# Altium footprint library Transistor.PcbLib: 227 footprints (part 10 of 15)
Each footprint in its own frame and in the unit in brackets; x right, y up, seen from the top. Pads: shape width x height; smd on the part's side, far side on the other; paste and mask are expansions set on the pad; w line width, h text height; cw(c..) or ccw(c..) is an arc to the next point about the centre after c.
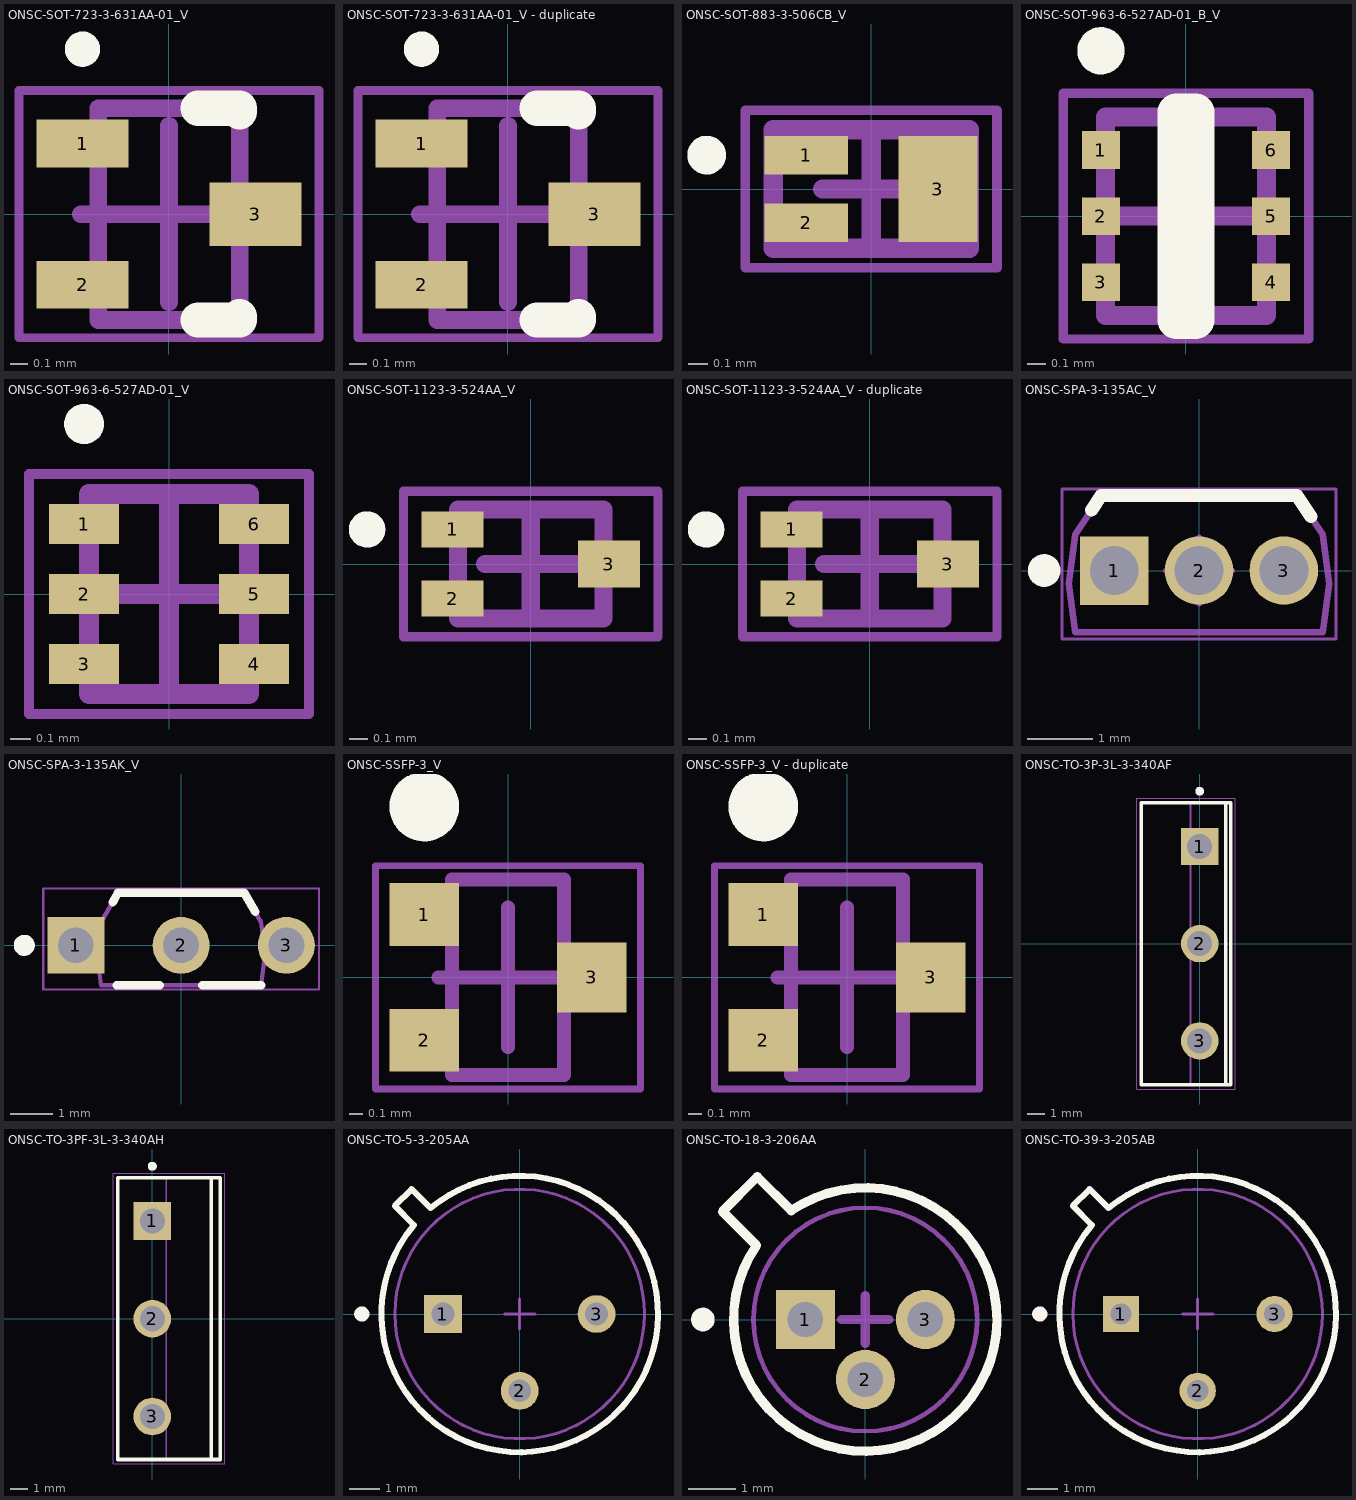
[diagram p9: the footprints below, top view; thin cyan lines are the x and y axes]

## ONSC-SOT-723-3-631AA-01_V [mm] "SOT223, 3-Leads, Body 1.2x0.8mm, Pitch 0.4mm"
height 0.55
pads (3):
  rect 0.52x0.27 smd: 1(-0.49,0.4) 2(-0.49,-0.4)
  rect 0.52x0.36 smd: 3(0.49,0)
Top Overlay:
  circle w0.1: c-0.49,0.935 r0.05
  lines w0.2: 0.165,-0.6 0.4,-0.6 0.4,-0.58 ; 0.165,0.6 0.4,0.6 0.4,0.58
Mechanical 13:
  lines w0.1: -0.4,-0.6 -0.4,0.6 0.4,0.6 0.4,-0.6 -0.4,-0.6
Mechanical 15:
  lines w0.05: -0.85,-0.7 -0.85,0.7 0.85,0.7 0.85,-0.7 -0.85,-0.7
  lines w0.1: -0.5,0 0.5,0 ; 0,-0.5 0,0.5
3D body: height 0.55, standoff 0, extent -0.4,-0.6 0.4,0.6

## ONSC-SOT-723-3-631AA-01_V - duplicate [mm] "SOT223, 3-Leads, Body 1.2x0.8mm, Pitch 0.4mm"
height 0.55
pads (3):
  rect 0.52x0.27 smd: 1(-0.49,0.4) 2(-0.49,-0.4)
  rect 0.52x0.36 smd: 3(0.49,0)
Top Overlay:
  circle w0.1: c-0.49,0.935 r0.05
  lines w0.2: 0.165,-0.6 0.4,-0.6 0.4,-0.58 ; 0.165,0.6 0.4,0.6 0.4,0.58
Mechanical 13:
  lines w0.1: -0.4,-0.6 -0.4,0.6 0.4,0.6 0.4,-0.6 -0.4,-0.6
Mechanical 15:
  lines w0.05: -0.85,-0.7 -0.85,0.7 0.85,0.7 0.85,-0.7 -0.85,-0.7
  lines w0.1: -0.5,0 0.5,0 ; 0,-0.5 0,0.5
3D body: height 0.55, standoff 0, extent -0.4,-0.6 0.4,0.6

## ONSC-SOT-883-3-506CB_V [mm] "SOT, 3-Leads, Body 1.012x0.613mm, Pitch 0.35mm"
height 0.44
pads (3):
  rect 0.43x0.2 smd: 1(-0.335,0.175) 2(-0.335,-0.175)
  rect 0.41x0.55 smd: 3(0.345,0)
Top Overlay:
  circle w0.1: c-0.85,0.175 r0.05
Mechanical 13:
  lines w0.1: -0.506,-0.306 -0.506,0.306 0.506,0.306 0.506,-0.306 -0.506,-0.306
Mechanical 15:
  lines w0.05: -0.65,-0.406 0.65,-0.406 0.65,0.406 -0.65,0.406 -0.65,-0.406
  lines w0.1: -0.25,0 0.25,0 ; 0,-0.25 0,0.25
3D body: height 0.44, standoff 0, extent -0.506,-0.306 0.506,0.306

## ONSC-SOT-963-6-527AD-01_B_V [mm] "SOT23, 6-Leads, Body 1.05x0.85mm, Pitch 0.35mm"
height 0.4
pads (6):
  rect 0.2x0.2 smd: 1(-0.45,0.35) 2(-0.45,0) 3(-0.45,-0.35) 4(0.45,-0.35) 5(0.45,0) 6(0.45,0.35)
Top Overlay:
  circle w0.125: c-0.45,0.875 r0.062
  lines w0.2: -0.05,-0.55 0.05,-0.55 0.05,0.55 -0.05,0.55 -0.05,-0.55
Mechanical 13:
  lines w0.1: -0.425,-0.525 -0.425,0.525 0.425,0.525 0.425,-0.525 -0.425,-0.525
Mechanical 15:
  lines w0.05: -0.65,-0.65 -0.65,0.65 0.65,0.65 0.65,-0.65 -0.65,-0.65
  lines w0.1: -0.5,0 0.5,0 ; 0,-0.5 0,0.5
3D body: height 0.4, standoff 0, extent -0.425,-0.525 0.425,0.525

## ONSC-SOT-963-6-527AD-01_V [mm] "SOT23, 6-Leads, Body 1x0.8mm, Pitch 0.35mm"
height 0.4
pads (6):
  rect 0.35x0.2 smd: 1(-0.425,0.35) 2(-0.425,0) 3(-0.425,-0.35) 4(0.425,-0.35) 5(0.425,0) 6(0.425,0.35)
Top Overlay:
  circle w0.1: c-0.425,0.85 r0.05
Mechanical 13:
  lines w0.1: -0.4,-0.5 0.4,-0.5 0.4,0.5 -0.4,0.5 -0.4,-0.5
Mechanical 15:
  lines w0.05: -0.7,-0.6 0.7,-0.6 0.7,0.6 -0.7,0.6 -0.7,-0.6
  lines w0.1: -0.5,0 0.5,0 ; 0,-0.5 0,0.5
3D body: height 0.4, standoff 0, extent -0.4,-0.5 0.4,0.5

## ONSC-SOT-1123-3-524AA_V [mm] "SOT223, 3-Leads, Body 0.8x0.6mm, Pitch 0.38mm"
height 0.4
pads (3):
  rect 0.34x0.2 smd: 1(-0.43,0.19) 2(-0.43,-0.19)
  rect 0.34x0.26 smd: 3(0.43,0)
Top Overlay:
  circle w0.1: c-0.9,0.19 r0.05
Mechanical 13:
  lines w0.1: -0.4,-0.3 0.4,-0.3 0.4,0.3 -0.4,0.3 -0.4,-0.3
Mechanical 15:
  lines w0.05: -0.7,-0.4 0.7,-0.4 0.7,0.4 -0.7,0.4 -0.7,-0.4
  lines w0.1: -0.25,0 0.25,0 ; 0,-0.25 0,0.25
3D body: height 0.4, standoff 0, extent -0.4,-0.3 0.4,0.3

## ONSC-SOT-1123-3-524AA_V - duplicate [mm] "SOT223, 3-Leads, Body 0.8x0.6mm, Pitch 0.38mm"
height 0.4
pads (3):
  rect 0.34x0.2 smd: 1(-0.43,0.19) 2(-0.43,-0.19)
  rect 0.34x0.26 smd: 3(0.43,0)
Top Overlay:
  circle w0.1: c-0.9,0.19 r0.05
Mechanical 13:
  lines w0.1: -0.4,-0.3 0.4,-0.3 0.4,0.3 -0.4,0.3 -0.4,-0.3
Mechanical 15:
  lines w0.05: -0.7,-0.4 0.7,-0.4 0.7,0.4 -0.7,0.4 -0.7,-0.4
  lines w0.1: -0.25,0 0.25,0 ; 0,-0.25 0,0.25
3D body: height 0.4, standoff 0, extent -0.4,-0.3 0.4,0.3

## ONSC-SPA-3-135AC_V [mm] "FM, 3-Leads, Body 4x2.2mm, Pitch 1.3mm"
height 5.083
pads (3):
  rect 1.05x1.05 hole 0.75: 1(-1.3,0)
  round 1.05 hole 0.75: 2(0,0) 3(1.3,0)
Top Overlay:
  circle w0.25: c-2.375,0 r0.125
  lines w0.2: -1.65,0.925 -1.5,1.15 1.5,1.15 1.716,0.826
Mechanical 13:
  lines w0.1: -2,-0.2 -1.9,0.55 -1.5,1.15 1.5,1.15 1.9,0.55 2,-0.2 1.9,-0.95 -1.9,-0.95 -2,-0.2
Mechanical 15:
  lines w0.05: -2.1,-1.05 2.1,-1.05 2.1,1.25 -2.1,1.25 -2.1,-1.05
  lines w0.1: -0.5,0 0.5,0 ; 0,-0.5 0,0.5
3D body: height 5.08, standoff 1.6, extent -2,-0.95 2,1.15
3D body: height 1.6, standoff -13.74, extent -0.199,-0.199 0.199,0.199
3D body: height 1.6, standoff -13.74, extent -1.499,-0.199 -1.1,0.2
3D body: height 1.6, standoff -13.74, extent 1.101,-0.199 1.5,0.2

## ONSC-SPA-3-135AK_V [mm] "SPA, 3-Leads, Body 4x2.2mm, Pitch 2.5mm"
height 7.2
pads (3):
  rect 1.35x1.35 hole 0.85: 1(-2.5,0)
  round 1.35 hole 0.85: 2(0,0) 3(2.5,0)
Top Overlay:
  circle w0.25: c-3.725,0 r0.125
  lines w0.2: -1.628,1.027 -1.5,1.25 1.5,1.25 1.762,0.792 ; -1.534,-0.95 -0.504,-0.95 ; 0.504,-0.95 1.9,-0.95
Mechanical 13:
  lines w0.1: -2,-0.2 -1.9,-0.95 1.9,-0.95 2,-0.2 1.9,0.55 1.5,1.25 -1.5,1.25 -1.9,0.55 -2,-0.2
Mechanical 15:
  lines w0.05: -3.275,-1.05 3.275,-1.05 3.275,1.35 -3.275,1.35 -3.275,-1.05
  lines w0.1: -0.5,0 0.5,0 ; 0,-0.5 0,0.5
3D body "123.step": height 4, standoff -11, extent -2.701,-0.2 2.7,0.2
3D body: height 7.2, standoff 4, extent -2,-0.973 2,1.227

## ONSC-SSFP-3_V [mm] "SOT23, 3-Leads, Body 1.4x0.8mm, Pitch 0.45mm"
height 0.65
pads (3):
  rect 0.5x0.45 smd: 1(-0.6,0.45) 2(-0.6,-0.45)
  rect 0.5x0.5 smd: 3(0.6,0)
Top Overlay:
  circle w0.25: c-0.6,1.225 r0.125
Mechanical 13:
  lines w0.1: -0.4,-0.7 -0.4,0.7 0.4,0.7 0.4,-0.7 -0.4,-0.7
Mechanical 15:
  lines w0.05: -0.95,-0.8 -0.95,0.8 0.95,0.8 0.95,-0.8 -0.95,-0.8
  lines w0.1: -0.5,0 0.5,0 ; 0,-0.5 0,0.5
3D body: height 0.65, standoff 0, extent -0.4,-0.7 0.4,0.7

## ONSC-SSFP-3_V - duplicate [mm] "SOT23, 3-Leads, Body 1.4x0.8mm, Pitch 0.45mm"
height 0.65
pads (3):
  rect 0.5x0.45 smd: 1(-0.6,0.45) 2(-0.6,-0.45)
  rect 0.5x0.5 smd: 3(0.6,0)
Top Overlay:
  circle w0.25: c-0.6,1.225 r0.125
Mechanical 13:
  lines w0.1: -0.4,-0.7 -0.4,0.7 0.4,0.7 0.4,-0.7 -0.4,-0.7
Mechanical 15:
  lines w0.05: -0.95,-0.8 -0.95,0.8 0.95,0.8 0.95,-0.8 -0.95,-0.8
  lines w0.1: -0.5,0 0.5,0 ; 0,-0.5 0,0.5
3D body: height 0.65, standoff 0, extent -0.4,-0.7 0.4,0.7

## ONSC-TO-3P-3L-3-340AF [mm] "FM, 3-Leads, Body 15.8x5mm, Pitch 5.45mm"
height 23.8
pads (3):
  rect 2.1x2.1 hole 1.4: 1(0,5.45)
  round 2.1 hole 1.4: 2(0,0) 3(0,-5.45)
Top Overlay:
  circle w0.25: c0,8.55 r0.125
  lines w0.2: 1.45,-7.9 1.45,7.9 ; -3.27,-7.9 -3.27,7.9 1.73,7.9 1.73,-7.9 -3.27,-7.9
Mechanical 13:
  lines w0.1: -0.52,-7.9 -0.52,7.9 ; -3.27,-7.9 1.73,-7.9 1.73,7.9 -3.27,7.9 -3.27,-7.9
Mechanical 15:
  lines w0.05: -3.52,-8.15 1.98,-8.15 1.98,8.15 -3.52,8.15 -3.52,-8.15
  lines w0.1: -0.5,0 0.5,0 ; 0,-0.5 0,0.5
3D body: height 23.8, standoff 20.4, extent -0.52,-7.8 1.73,7.8
3D body: height 19.12, standoff 18.8, extent -0.52,-7.8 1.73,-1.6
3D body: height 19.12, standoff 18.8, extent -0.52,1.6 1.73,7.8
3D body: height 18.8, standoff 18.49, extent -0.52,-7.8 1.73,-1.6
3D body: height 18.8, standoff 18.49, extent -0.52,1.6 1.73,7.8
3D body: height 19.42, standoff 19.11, extent -0.52,-7.8 1.73,-1.569
3D body: height 19.42, standoff 19.11, extent -0.52,1.569 1.73,7.8
3D body: height 18.49, standoff 18.19, extent -0.52,-7.8 1.73,-1.569
3D body: height 18.49, standoff 18.19, extent -0.52,1.569 1.73,7.8
3D body: height 19.69, standoff 19.41, extent -0.52,-7.8 1.73,-1.478
3D body: height 19.69, standoff 19.41, extent -0.52,1.478 1.73,7.8
3D body: height 18.19, standoff 17.91, extent -0.52,-7.8 1.73,-1.478
3D body: height 18.19, standoff 17.91, extent -0.52,1.478 1.73,7.8
3D body: height 19.94, standoff 19.69, extent -0.52,-7.8 1.73,-1.33
3D body: height 19.94, standoff 19.69, extent -0.52,1.33 1.73,7.8
3D body: height 17.92, standoff 17.67, extent -0.52,-7.8 1.73,-1.33
3D body: height 17.92, standoff 17.67, extent -0.52,1.33 1.73,7.8
3D body: height 20.14, standoff 19.93, extent -0.52,-7.8 1.73,-1.131
3D body: height 20.14, standoff 19.93, extent -0.52,1.131 1.73,7.8
3D body: height 17.67, standoff 17.47, extent -0.52,-7.8 1.73,-1.131
3D body: height 17.67, standoff 17.47, extent -0.52,1.131 1.73,7.8
3D body: height 20.28, standoff 20.13, extent -0.52,-7.8 1.73,-0.889
3D body: height 20.28, standoff 20.13, extent -0.52,0.889 1.73,7.8
3D body: height 17.47, standoff 17.32, extent -0.52,-7.8 1.73,-0.889
3D body: height 17.47, standoff 17.32, extent -0.52,0.889 1.73,7.8
3D body: height 20.37, standoff 20.28, extent -0.52,-7.8 1.73,-0.612
3D body: height 20.37, standoff 20.28, extent -0.52,0.612 1.73,7.8
3D body: height 17.33, standoff 17.23, extent -0.52,-7.8 1.73,-0.612
3D body: height 17.33, standoff 17.23, extent -0.52,0.612 1.73,7.8
3D body: height 20.4, standoff 20.37, extent -0.52,-7.8 1.73,-0.312
3D body: height 20.4, standoff 20.37, extent -0.52,0.312 1.73,7.8
3D body: height 17.24, standoff 17.2, extent -0.52,-7.8 1.73,-0.312
3D body: height 17.24, standoff 17.2, extent -0.52,0.312 1.73,7.8
3D body: height 17.2, standoff 17.05, extent -0.52,-7.8 1.73,7.8
3D body: height 17.05, standoff 3.3, extent -3.27,-7.9 1.73,7.9
3D body: height 0, standoff -1.6, extent -0.325,-5.95 0.325,-4.95
3D body: height 3.3, standoff 0, extent -0.325,-6.95 0.325,-3.95
3D body: height 0, standoff -1.6, extent -0.325,-0.5 0.325,0.5
3D body: height 3.3, standoff 0, extent -0.325,-1.5 0.325,1.5
3D body: height 0, standoff -1.6, extent -0.325,4.95 0.325,5.95
3D body: height 3.3, standoff 0, extent -0.325,3.95 0.325,6.95

## ONSC-TO-3PF-3L-3-340AH [mm] "FM, 3-Leads, Body 15.7x5.7mm, Pitch 5.45mm"
height 29.9
pads (3):
  rect 2.1x2.1 hole 1.4: 1(0,5.45)
  round 2.1 hole 1.4: 2(0,0) 3(0,-5.45)
Top Overlay:
  circle w0.25: c0,8.5 r0.125
  lines w0.2: 3.28,-7.85 3.28,7.85 ; -1.92,-7.85 3.78,-7.85 3.78,7.85 -1.92,7.85 -1.92,-7.85
Mechanical 13:
  lines w0.1: 0.78,-7.85 0.78,7.85 ; -1.92,-7.85 -1.92,7.85 3.78,7.85 3.78,-7.85 -1.92,-7.85
Mechanical 15:
  lines w0.05: -2.17,-8.1 -2.17,8.1 4.03,8.1 4.03,-8.1 -2.17,-8.1
  lines w0.1: -0.5,0 0.5,0 ; 0,-0.5 0,0.5
3D body: height 4.8, standoff 0, extent -0.475,4.45 0.475,6.45
3D body: height 0, standoff -1.6, extent -0.475,5.05 0.475,5.85
3D body: height 4.8, standoff 0, extent -0.475,-1 0.475,1
3D body: height 0, standoff -1.6, extent -0.475,-0.4 0.475,0.4
3D body: height 4.8, standoff 0, extent -0.475,-6.45 0.475,-4.45
3D body: height 0, standoff -1.6, extent -0.475,-5.85 0.475,-5.05
3D body: height 19.9, standoff 4.8, extent -1.92,-7.85 3.78,7.85
3D body: height 23.6, standoff 19.9, extent 0.78,-7.75 3.78,7.75
3D body: height 23.64, standoff 23.6, extent 0.78,0.351 3.78,7.75
3D body: height 23.64, standoff 23.6, extent 0.78,-7.75 3.78,-0.351
3D body: height 27.2, standoff 27.17, extent 0.78,0.351 3.78,7.75
3D body: height 27.2, standoff 27.17, extent 0.78,-7.75 3.78,-0.351
3D body: height 23.74, standoff 23.63, extent 0.78,0.689 3.78,7.75
3D body: height 23.74, standoff 23.63, extent 0.78,-7.75 3.78,-0.689
3D body: height 27.17, standoff 27.06, extent 0.78,0.689 3.78,7.75
3D body: height 27.17, standoff 27.06, extent 0.78,-7.75 3.78,-0.689
3D body: height 23.91, standoff 23.74, extent 0.78,1 3.78,7.75
3D body: height 23.91, standoff 23.74, extent 0.78,-7.75 3.78,-1
3D body: height 27.07, standoff 26.9, extent 0.78,1 3.78,7.75
3D body: height 27.07, standoff 26.9, extent 0.78,-7.75 3.78,-1
3D body: height 24.13, standoff 23.9, extent 0.78,1.273 3.78,7.75
3D body: height 24.13, standoff 23.9, extent 0.78,-7.75 3.78,-1.273
3D body: height 26.9, standoff 26.67, extent 0.78,1.273 3.78,7.75
3D body: height 26.9, standoff 26.67, extent 0.78,-7.75 3.78,-1.273
3D body: height 24.4, standoff 24.13, extent 0.78,1.497 3.78,7.75
3D body: height 24.4, standoff 24.13, extent 0.78,-7.75 3.78,-1.497
3D body: height 26.68, standoff 26.4, extent 0.78,1.497 3.78,7.75
3D body: height 26.68, standoff 26.4, extent 0.78,-7.75 3.78,-1.497
3D body: height 24.72, standoff 24.4, extent 0.78,1.663 3.78,7.75
3D body: height 24.72, standoff 24.4, extent 0.78,-7.75 3.78,-1.663
3D body: height 26.41, standoff 26.09, extent 0.78,1.663 3.78,7.75
3D body: height 26.41, standoff 26.09, extent 0.78,-7.75 3.78,-1.663
3D body: height 25.05, standoff 24.71, extent 0.78,1.765 3.78,7.75
3D body: height 25.05, standoff 24.71, extent 0.78,-7.75 3.78,-1.765
3D body: height 26.09, standoff 25.75, extent 0.78,1.765 3.78,7.75
3D body: height 26.09, standoff 25.75, extent 0.78,-7.75 3.78,-1.765
3D body: height 25.4, standoff 25.05, extent 0.78,1.8 3.78,7.75
3D body: height 25.4, standoff 25.05, extent 0.78,-7.75 3.78,-1.8
3D body: height 25.76, standoff 25.4, extent 0.78,1.8 3.78,7.75
3D body: height 25.76, standoff 25.4, extent 0.78,-7.75 3.78,-1.8
3D body: height 29.9, standoff 27.2, extent 0.78,-7.75 3.78,7.75

## ONSC-TO-5-3-205AA [mm] "TO, 3-Leads, Diameter 9.145 mm"
height 7.87
pads (3):
  rect 1.25x1.25 hole 0.75: 1(-2.54,0)
  round 1.25 hole 0.75: 2(0,-2.54) 3(2.54,0)
Top Overlay:
  circle w0.25: c-5.223,0 r0.125
  lines w0.2: -4.13,3.575 -3.499,2.944 ccw(c0,0) -2.944,3.499 -3.575,4.13 -4.13,3.575
Mechanical 13:
  circle w0.1: c0,0 r4.127
  lines w0.1: -4.13,3.575 -3.575,4.13 -2.944,3.499 cw(c0,0) -3.499,2.944 -4.13,3.575
Mechanical 15:
  lines w0.1: -0.5,0 0.5,0 ; 0,-0.5 0,0.5
3D body: height 4.45, standoff 1.27, extent -4.577,-4.584 4.574,4.577
3D body: height 7.87, standoff 1.27, extent -4.127,-4.127 4.127,4.127

## ONSC-TO-18-3-206AA [mm] "TO, 3-Leads, Diameter 5.575 mm"
height 6.6
pads (3):
  rect 1.25x1.25 hole 0.75: 1(-1.27,0)
  round 1.25 hole 0.75: 2(0,-1.27) 3(1.27,0)
Top Overlay:
  circle w0.25: c-3.438,0 r0.125
  lines w0.2: -2.306,1.57 -3.021,2.286 -2.286,3.021 -1.569,2.305 ; -2.304,1.569 ccw(c0,0) -1.569,2.304
Mechanical 13:
  circle w0.1: c0,0 r2.368
  lines w0.1: -3.021,2.286 -2.286,3.021 -1.569,2.305 cw(c0,0) -2.305,1.569 -3.021,2.286
Mechanical 15:
  lines w0.2: -0.5,0 0.5,0 ; 0,-0.5 0,0.5
3D body: height 6.6, standoff 1.27, extent -2.367,-2.367 2.367,2.367
3D body: height 2.03, standoff 1.27, extent -3.022,-2.8 2.789,3.022

## ONSC-TO-39-3-205AB [mm] "TO, 3-Leads, Diameter 9.145 mm"
height 7.87
pads (3):
  rect 1.2x1.2 hole 0.7: 1(-2.54,0)
  round 1.2 hole 0.7: 2(0,-2.54) 3(2.54,0)
Top Overlay:
  circle w0.25: c-5.223,0 r0.125
  lines w0.2: -4.13,3.575 -3.499,2.944 ccw(c0,0) -2.944,3.499 -3.575,4.13 -4.13,3.575
Mechanical 13:
  circle w0.1: c0,0 r4.127
  lines w0.1: -4.13,3.575 -3.575,4.13 -2.944,3.499 cw(c0,0) -3.499,2.944 -4.13,3.575
Mechanical 15:
  lines w0.1: -0.5,0 0.5,0 ; 0,-0.5 0,0.5
3D body: height 7.87, standoff 1.27, extent -4.127,-4.127 4.127,4.127
3D body: height 4.54, standoff 1.27, extent -4.577,-4.584 4.574,4.577